# Altium schematic symbol library CRCW0805200MJPEAHR.SchLib: 1 symbol
Pins are listed as number, name and electrical type; pins without a type are passive.

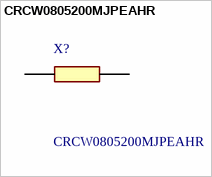
[diagram p0: symbol CRCW0805200MJPEAHR]

## CRCW0805200MJPEAHR
designator X?
Res Thick Film 0805 200M Ohm 5% 0.125W(1/8W) +/-500ppm/C Pad SMD T/R; Manufacturer_Name: Vishay; Geometry.Height: 0.5mm; Mouser Part Number: 71-CRCW0805200MJPEAR; Mouser Price/Stock: https://www.mouser.co.uk/ProductDetail/Vishay-Dale/CRCW0805200MJPEAHR?qs=1Y%252Bwz%2FmXx1X9mklwBLyslQ%3D%3D; Manufacturer_Part_Number: CRCW0805200MJPEAHR; Datasheet Link: https://www.arrow.com/en/products/crcw0805200mjpeahr/vishay
footprint RESC2012X50N
pins: 1, 2